# Altium schematic symbol library Ferrite_beads_Sch.SchLib: 1 symbol
Pins are listed as number, name and electrical type; pins without a type are passive.

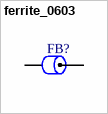
[diagram p0: symbol ferrite_0603]

## ferrite_0603
designator FB?
Package: 0603; ComponentLink1Description: Link
footprint FER 0603_1608 (Chip Ferrite, 2-Leads, Body 1.60x0.80mm, IPC Medium Density)
pins: 1, 2